# EAGLE library part TH2028A (library ezlib)
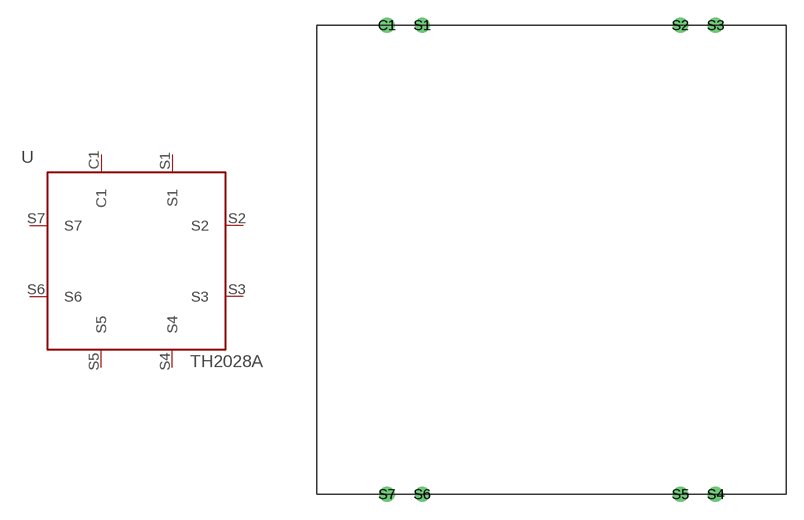
[diagram p2: symbol with the pads of LCD_TH2028A; footprint LCD_TH2028A]

Designator prefix -

## TH2028AR  [LCD_TH2028A]
C1  C1  in
S1  S1  in
S2  S2  nc
S3  S3  in
S4  S4  in
S5  S5  in
S6  S6  in
S7  S7  in

## Footprint LCD_TH2028A (pad centres in mm)
drill 0.8: C1 -14,20; S1 -11,20; S2 11,20; S3 14,20; S4 14,-20; S5 11,-20; S6 -11,-20; S7 -14,-20